# EAGLE library part 2088RGB (library X893)
http://www.uctronics.com/download/rgb_led.pdf
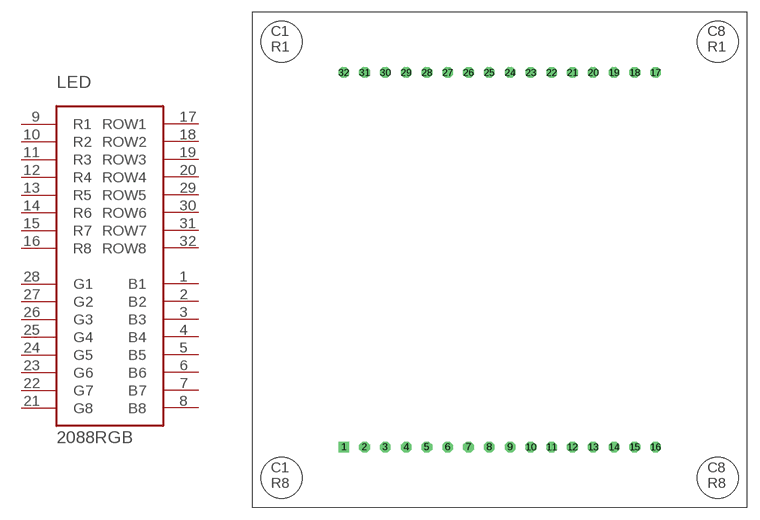
[diagram p168: symbol with the pads of 2088RGB; footprint 2088RGB]

Designator prefix LED

## 2088RGB  [2088RGB]
1  B1  pas
2  B2  pas
3  B3  pas
4  B4  pas
5  B5  pas
6  B6  pas
7  B7  pas
8  B8  pas
9  R1  pas
10  R2  pas
11  R3  pas
12  R4  pas
13  R5  pas
14  R6  pas
15  R7  pas
16  R8  pas
17  ROW1  pas
18  ROW2  pas
19  ROW3  pas
20  ROW4  pas
21  G8  pas
22  G7  pas
23  G6  pas
24  G5  pas
25  G4  pas
26  G3  pas
27  G2  pas
28  G1  pas
29  ROW5  pas
30  ROW6  pas
31  ROW7  pas
32  ROW8  pas

## Footprint 2088RGB (pad centres in mm)
drill 0.8 square: 1 -19.05,-22.88
drill 0.8 octagon: 2 -16.51,-22.88; 3 -13.97,-22.88; 4 -11.43,-22.88; 5 -8.89,-22.88; 6 -6.35,-22.88; 7 -3.81,-22.88; 8 -1.27,-22.88; 9 1.27,-22.88; 10 3.81,-22.88; 11 6.35,-22.88; 12 8.89,-22.88; 13 11.43,-22.88; 14 13.97,-22.88; 15 16.51,-22.88; 16 19.05,-22.88; 17 19.05,22.88; 18 16.51,22.88; 19 13.97,22.88; 20 11.43,22.88; 21 8.89,22.88; 22 6.35,22.88; 23 3.81,22.88; 24 1.27,22.88; 25 -1.27,22.88; 26 -3.81,22.88; 27 -6.35,22.88; 28 -8.89,22.88; 29 -11.43,22.88; 30 -13.97,22.88; 31 -16.51,22.88; 32 -19.05,22.88